# Altium schematic symbol library SCH - MCU - RENESAS - RENESAS R7FS1247XXXXXXLM 36LGA.SchLib: 1 symbol
Pins are listed as number, name and electrical type; pins without a type are passive.

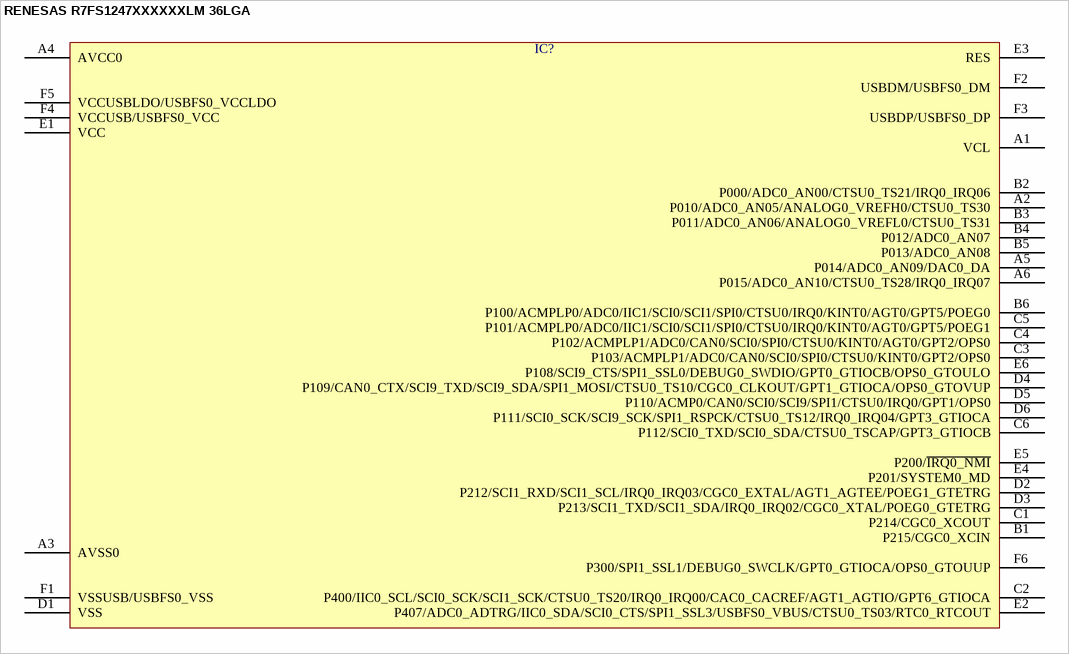
[diagram p0: symbol RENESAS R7FS1247XXXXXXLM 36LGA]

## RENESAS R7FS1247XXXXXXLM 36LGA
designator IC?  (value not drawn)
pins: A1 VCL, A2 P010/ADC0_AN05/ANALOG0_VREFH0/CTSU0_TS30, A3 AVSS0, A4 AVCC0, A5 P014/ADC0_AN09/DAC0_DA, A6 P015/ADC0_AN10/CTSU0_TS28/IRQ0_IRQ07, B1 P215/CGC0_XCIN, B2 P000/ADC0_AN00/CTSU0_TS21/IRQ0_IRQ06, B3 P011/ADC0_AN06/ANALOG0_VREFL0/CTSU0_TS31, B4 P012/ADC0_AN07, B5 P013/ADC0_AN08, B6 P100/ACMPLP0/ADC0/IIC1/SCI0/SCI1/SPI0/CTSU0/IRQ0/KINT0/AGT0/GPT5/POEG0, C1 P214/CGC0_XCOUT, C2 P400/IIC0_SCL/SCI0_SCK/SCI1_SCK/CTSU0_TS20/IRQ0_IRQ00/CAC0_CACREF/AGT1_AGTIO/GPT6_GTIOCA, C3 P103/ACMPLP1/ADC0/CAN0/SCI0/SPI0/CTSU0/KINT0/GPT2/OPS0, C4 P102/ACMPLP1/ADC0/CAN0/SCI0/SPI0/CTSU0/KINT0/AGT0/GPT2/OPS0, C5 P101/ACMPLP0/ADC0/IIC1/SCI0/SCI1/SPI0/CTSU0/IRQ0/KINT0/AGT0/GPT5/POEG1, C6 P112/SCI0_TXD/SCI0_SDA/CTSU0_TSCAP/GPT3_GTIOCB, D1 VSS, D2 P212/SCI1_RXD/SCI1_SCL/IRQ0_IRQ03/CGC0_EXTAL/AGT1_AGTEE/POEG1_GTETRG, D3 P213/SCI1_TXD/SCI1_SDA/IRQ0_IRQ02/CGC0_XTAL/POEG0_GTETRG, D4 P109/CAN0_CTX/SCI9_TXD/SCI9_SDA/SPI1_MOSI/CTSU0_TS10/CGC0_CLKOUT/GPT1_GTIOCA/OPS0_GTOVUP, D5 P110/ACMP0/CAN0/SCI0/SCI9/SPI1/CTSU0/IRQ0/GPT1/OPS0, D6 P111/SCI0_SCK/SCI9_SCK/SPI1_RSPCK/CTSU0_TS12/IRQ0_IRQ04/GPT3_GTIOCA, E1 VCC, E2 P407/ADC0_ADTRG/IIC0_SDA/SCI0_CTS/SPI1_SSL3/USBFS0_VBUS/CTSU0_TS03/RTC0_RTCOUT, E3 RES, E4 P201/SYSTEM0_MD, E5 P200/~{IRQ0_NMI}, E6 P108/SCI9_CTS/SPI1_SSL0/DEBUG0_SWDIO/GPT0_GTIOCB/OPS0_GTOULO, F1 VSSUSB/USBFS0_VSS, F2 USBDM/USBFS0_DM, F3 USBDP/USBFS0_DP, F4 VCCUSB/USBFS0_VCC, F5 VCCUSBLDO/USBFS0_VCCLDO, F6 P300/SPI1_SSL1/DEBUG0_SWCLK/GPT0_GTIOCA/OPS0_GTOUUP